# Altium footprint library LIB_PCB.PcbLib: 28 footprints (part 2 of 2)
Each footprint in its own frame and in the unit in brackets; x right, y up, seen from the top. Pads: shape width x height; smd on the part's side, far side on the other; paste and mask are expansions set on the pad; w line width, h text height; cw(c..) or ccw(c..) is an arc to the next point about the centre after c.
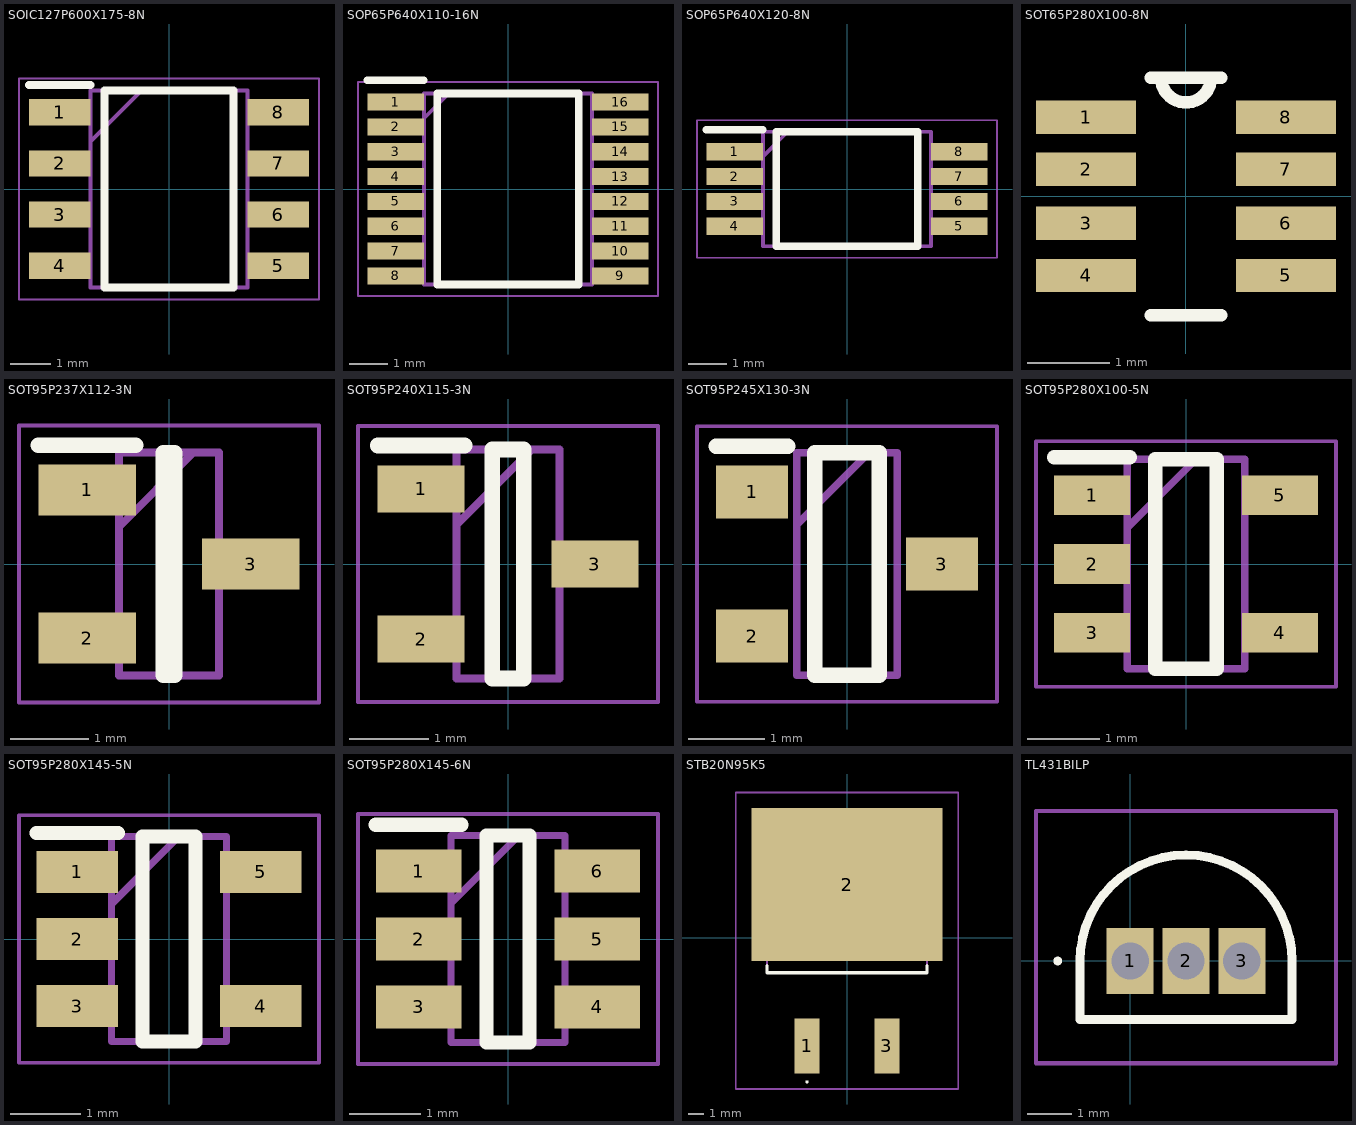
[diagram p1: the footprints below, top view; thin cyan lines are the x and y axes]

## SOIC127P600X175-8N [mm]
pads (8):
  rect 1.525x0.65 smd: 1(-2.712,1.905) 2(-2.712,0.635) 3(-2.712,-0.635) 4(-2.712,-1.905) 5(2.712,-1.905) 6(2.712,-0.635) 7(2.712,0.635) 8(2.712,1.905)
Top Overlay:
  lines w0.2: -3.475,2.58 -1.95,2.58 ; -1.6,-2.45 1.6,-2.45 1.6,2.45 -1.6,2.45 -1.6,-2.45
Mechanical 13:
  lines w0.1: -1.95,1.18 -0.68,2.45 ; -1.95,-2.45 1.95,-2.45 1.95,2.45 -1.95,2.45 -1.95,-2.45
Mechanical 15:
  lines w0.05: -3.725,-2.75 3.725,-2.75 3.725,2.75 -3.725,2.75 -3.725,-2.75
3D body "NE555DR.stp": height 1.75, standoff 0, extent -3,-2.45 3,2.45

## SOP65P640X110-16N [mm]
pads (16):
  rect 1.475x0.45 smd: 1(-2.938,2.275) 2(-2.938,1.625) 3(-2.938,0.975) 4(-2.938,0.325) 5(-2.938,-0.325) 6(-2.938,-0.975) 7(-2.938,-1.625) 8(-2.938,-2.275) 9(2.938,-2.275) 10(2.938,-1.625) 11(2.938,-0.975) 12(2.938,-0.325) 13(2.938,0.325) 14(2.938,0.975) 15(2.938,1.625) 16(2.938,2.275)
Top Overlay:
  lines w0.2: -3.675,2.85 -2.2,2.85 ; -1.85,-2.5 1.85,-2.5 1.85,2.5 -1.85,2.5 -1.85,-2.5
Mechanical 13:
  lines w0.1: -2.2,1.85 -1.55,2.5 ; -2.2,-2.5 2.2,-2.5 2.2,2.5 -2.2,2.5 -2.2,-2.5
Mechanical 15:
  lines w0.05: -3.925,-2.8 3.925,-2.8 3.925,2.8 -3.925,2.8 -3.925,-2.8
3D body "MAX313EUE+.stp": height 1.1, standoff 0, extent -3.2,-2.5 3.2,2.5

## SOP65P640X120-8N [mm]
pads (8):
  rect 1.475x0.45 smd: 1(-2.938,0.975) 2(-2.938,0.325) 3(-2.938,-0.325) 4(-2.938,-0.975) 5(2.938,-0.975) 6(2.938,-0.325) 7(2.938,0.325) 8(2.938,0.975)
Top Overlay:
  lines w0.2: -3.675,1.55 -2.2,1.55 ; -1.85,-1.5 -1.85,1.5 1.85,1.5 1.85,-1.5 -1.85,-1.5
Mechanical 13:
  lines w0.1: -2.2,0.85 -1.55,1.5 ; -2.2,-1.5 -2.2,1.5 2.2,1.5 2.2,-1.5 -2.2,-1.5
Mechanical 15:
  lines w0.05: -3.925,-1.8 -3.925,1.8 3.925,1.8 3.925,-1.8 -3.925,-1.8
3D body "LT1009IPWR.stp": height 1.11, standoff 0.01, extent -3.21,-1.5 3.21,1.5

## SOT65P280X100-8N [mil]
pads (8):
  rect 48x16 smd: 1(-48,38) 2(-48,13) 3(-48,-13) 4(-48,-38) 5(48,-38) 6(48,-13) 7(48,13) 8(48,38)
Top Overlay:
  lines w6: -17,-57 17,-57 ; -17,57 -12,57 ; 17,57 12,57 ; -12,57 ccw(c0,57) 12,57 ; -12,57 12,57
3D body "LTC4361CTS8-2TRMPBF.stp": height 39.37, standoff 0, extent -55.12,-57.09 55.12,57.09

## SOT95P237X112-3N [mm]
pads (3):
  rect 1.25x0.65 smd: 1(-1.05,0.95) 2(-1.05,-0.95) 3(1.05,0)
Top Overlay:
  lines w0.2: -1.675,1.525 -0.425,1.525 ; -0.075,-1.43 -0.075,1.43 0.075,1.43 0.075,-1.43 -0.075,-1.43
Mechanical 13:
  lines w0.1: -0.64,0.48 0.31,1.43 ; -0.64,-1.43 -0.64,1.43 0.64,1.43 0.64,-1.43 -0.64,-1.43
Mechanical 15:
  lines w0.05: -1.925,-1.775 -1.925,1.775 1.925,1.775 1.925,-1.775 -1.925,-1.775
3D body "MCP1700T-3302E_TT.stp": height 1.12, standoff 0, extent -1.185,-1.43 1.185,1.43

## SOT95P240X115-3N [mm]
pads (3):
  rect 1.1x0.6 smd: 1(-1.1,0.95) 2(-1.1,-0.95) 3(1.1,0)
Top Overlay:
  lines w0.2: -1.65,1.5 -0.55,1.5 ; -0.2,-1.45 -0.2,1.45 0.2,1.45 0.2,-1.45 -0.2,-1.45
Mechanical 13:
  lines w0.1: -0.65,0.5 0.3,1.45 ; -0.65,-1.45 -0.65,1.45 0.65,1.45 0.65,-1.45 -0.65,-1.45
Mechanical 15:
  lines w0.05: -1.9,-1.75 -1.9,1.75 1.9,1.75 1.9,-1.75 -1.9,-1.75
3D body "S9012.stp": height 1.15, standoff 0, extent -1.2,-1.45 1.2,1.45

## SOT95P245X130-3N [mm]
pads (3):
  rect 0.95x0.7 smd: 1(-1.25,0.95) 2(-1.25,-0.95) 3(1.25,0)
Top Overlay:
  lines w0.2: -1.725,1.55 -0.775,1.55 ; -0.425,-1.465 -0.425,1.465 0.425,1.465 0.425,-1.465 -0.425,-1.465
Mechanical 13:
  lines w0.1: -0.662,0.515 0.288,1.465 ; -0.662,-1.465 -0.662,1.465 0.662,1.465 0.662,-1.465 -0.662,-1.465
Mechanical 15:
  lines w0.05: -1.975,-1.815 -1.975,1.815 1.975,1.815 1.975,-1.815 -1.975,-1.815
3D body "MMBTA92.stp": height 1.3, standoff 0, extent -1.225,-1.465 1.225,1.465

## SOT95P280X100-5N [mm]
pads (5):
  rect 1.05x0.55 smd: 1(-1.3,0.95) 2(-1.3,0) 3(-1.3,-0.95) 4(1.3,-0.95) 5(1.3,0.95)
Top Overlay:
  lines w0.2: -1.825,1.475 -0.775,1.475 ; -0.425,-1.45 0.425,-1.45 0.425,1.45 -0.425,1.45 -0.425,-1.45
Mechanical 13:
  lines w0.1: -0.812,0.5 0.138,1.45 ; -0.812,-1.45 0.812,-1.45 0.812,1.45 -0.812,1.45 -0.812,-1.45
Mechanical 15:
  lines w0.05: -2.075,-1.7 2.075,-1.7 2.075,1.7 -2.075,1.7 -2.075,-1.7
3D body "LTC2054HVIS5#TRMPBF.stp": height 1, standoff 0, extent -1.4,-1.45 1.4,1.45

## SOT95P280X145-5N [mm]
pads (5):
  rect 1.15x0.6 smd: 1(-1.3,0.95) 2(-1.3,0) 3(-1.3,-0.95) 4(1.3,-0.95) 5(1.3,0.95)
Top Overlay:
  lines w0.2: -1.875,1.5 -0.725,1.5 ; -0.375,-1.45 0.375,-1.45 0.375,1.45 -0.375,1.45 -0.375,-1.45
Mechanical 13:
  lines w0.1: -0.812,0.5 0.138,1.45 ; -0.812,-1.45 0.812,-1.45 0.812,1.45 -0.812,1.45 -0.812,-1.45
Mechanical 15:
  lines w0.05: -2.125,-1.75 2.125,-1.75 2.125,1.75 -2.125,1.75 -2.125,-1.75
3D body "STWD100NPWY3F.stp": height 1.45, standoff 0, extent -1.4,-1.45 1.4,1.45

## SOT95P280X145-6N [mm]
pads (6):
  rect 1.2x0.6 smd: 1(-1.25,0.95) 2(-1.25,0) 3(-1.25,-0.95) 4(1.25,-0.95) 5(1.25,0) 6(1.25,0.95)
Top Overlay:
  lines w0.2: -1.85,1.6 -0.65,1.6 ; -0.3,-1.45 -0.3,1.45 0.3,1.45 0.3,-1.45 -0.3,-1.45
Mechanical 13:
  lines w0.1: -0.8,0.5 0.15,1.45 ; -0.8,-1.45 -0.8,1.45 0.8,1.45 0.8,-1.45 -0.8,-1.45
Mechanical 15:
  lines w0.05: -2.1,-1.75 -2.1,1.75 2.1,1.75 2.1,-1.75 -2.1,-1.75
3D body "ADP3330ARTZ-2.5-R7.stp": height 1.45, standoff 0, extent -1.4,-1.45 1.4,1.45

## STB20N95K5 [mm]
pads (3):
  rect 1.6x3.5 smd: 1(-2.54,-6.907) 3(2.54,-6.907)
  rect 12.2x9.75 smd: 2(0,3.368)
Top Overlay:
  lines w0.1: -2.6,-9.2 cw(c-2.55,-9.2) -2.5,-9.2 cw(c-2.55,-9.2) -2.6,-9.2
  lines w0.2: -5.1,-1.8 -5.1,-2.242 5.1,-2.242 5.1,-1.8
Mechanical 13:
  lines w0.1: -5.1,-2.242 -5.1,6.908 5.1,6.908 5.1,-2.242 -5.1,-2.242
Mechanical 15:
  lines w0.1: -7.1,-9.657 -7.1,9.243 7.1,9.243 7.1,-9.657 -7.1,-9.657
3D body "L7805ACD2T.stp": height 4.6, standoff 0, extent -5.1,-7.922 5.1,7.502

## TL431BILP [mm]
pads (3):
  rect 1.07x1.5 hole 0.85: 1(0,0) 2(1.27,0) 3(2.54,0)
Top Overlay:
  lines w0.1: -1.7,0 ccw(c-1.65,0) -1.6,0 ccw(c-1.65,0) -1.7,0
  lines w0.2: 3.682,0 3.682,-1.33 -1.143,-1.33 -1.143,0 cw(c1.27,0) 3.683,0
Mechanical 13:
  lines w0.1: 3.682,0 3.682,-1.33 -1.143,-1.33 -1.143,0 cw(c1.27,0) 3.683,0
Mechanical 15:
  lines w0.1: -2.143,-2.33 4.682,-2.33 4.682,3.413 -2.143,3.413 -2.143,-2.33
3D body "TL431BILP.stp": height 5.44, standoff -1.7, extent -1.143,-1.33 3.682,2.412